# EAGLE library part MPU9250 (library WiFlyParts)
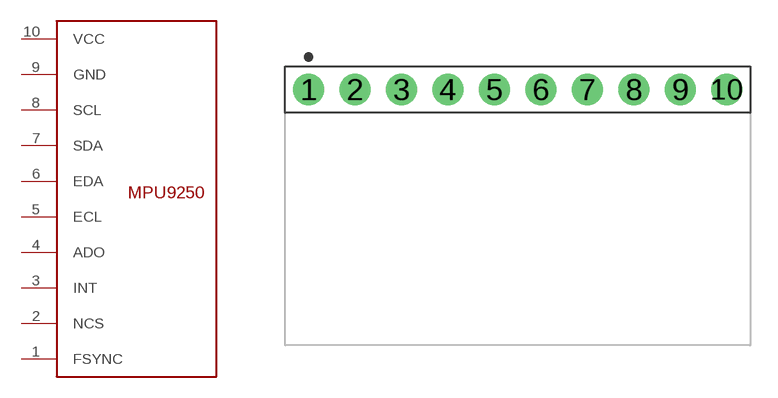
[diagram p0: symbol with the pads of HDRVR10W64P254_1X10_2540X254X254B; footprint HDRVR10W64P254_1X10_2540X254X254B]

Designator prefix -

## MPU9250FEMALE_HEADER  [HDRVR10W64P254_1X10_2540X254X254B]
1  FSYNC
2  NCS
3  INT
4  ADO
5  ECL
6  EDA
7  SDA
8  SCL
9  GND
10  VCC

## Footprint HDRVR10W64P254_1X10_2540X254X254B (pad centres in mm)
Single-row, 10-pin Receptacle Header (Female) Straight, 2.54 mm (0.10 in) col pitch, 2.54 mm insulator length, 25.40 X 2.54 X 2.54 mm body Single-row (1X10), 10-pin Receptacle Header (Female) Straight package with 2.54 mm (0.10 in) col pitch, 0.64 mm lead width, 3.00 mm tail length and 2.54 mm insulator length with overall size 25.40 X 2.54 X 2.54 mm, pin pattern - clockwise from top left
drill 1.105 pad 1.705: 1 1.27,-1.27; 2 3.81,-1.27; 3 6.35,-1.27; 4 8.89,-1.27; 5 11.43,-1.27; 6 13.97,-1.27; 7 16.51,-1.27; 8 19.05,-1.27; 9 21.59,-1.27; 10 24.13,-1.27